# Altium footprint library pag7936.PcbLib: 21 footprints (part 2 of 2)
Each footprint in its own frame and in the unit in brackets; x right, y up, seen from the top. Pads: shape width x height; smd on the part's side, far side on the other; paste and mask are expansions set on the pad; w line width, h text height; cw(c..) or ccw(c..) is an arc to the next point about the centre after c.
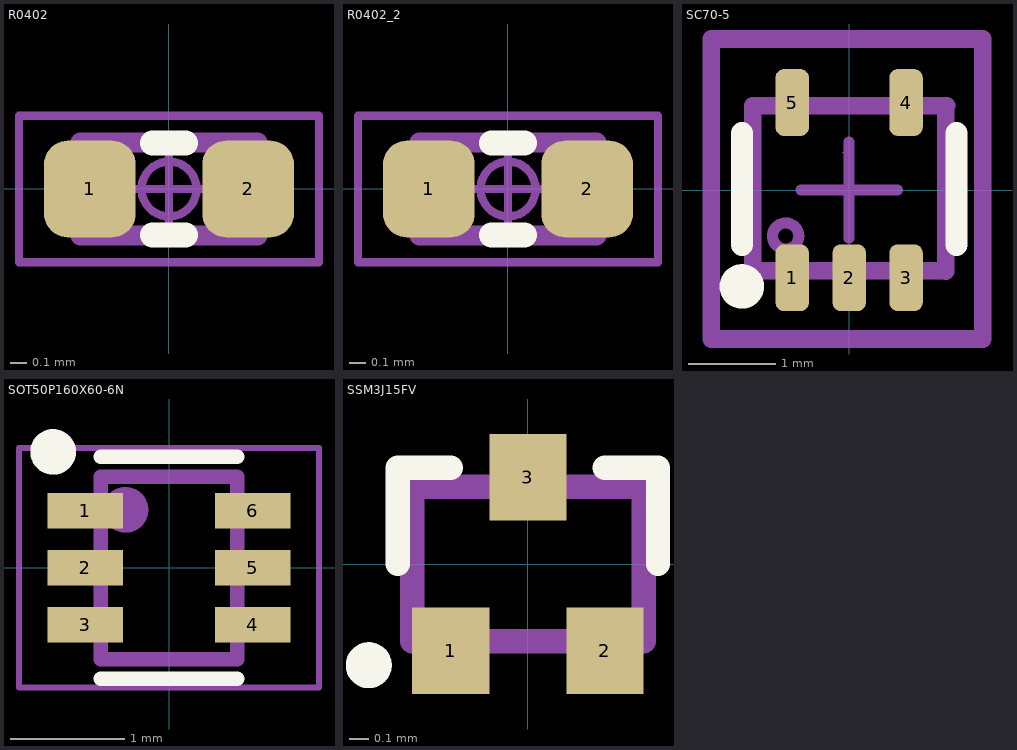
[diagram p1: the footprints below, top view; thin cyan lines are the x and y axes]

## R0402 [mm]
pads (2):
  rrect51% 0.55x0.58 smd mask+0.05: 1(-0.475,0) 2(0.475,0)
Top Overlay:
  lines w0.15: -0.1,-0.275 0.1,-0.275 ; -0.1,0.275 0.1,0.275
Top 3D Body:
  lines w0.12: -0.53,-0.28 0.53,-0.28 0.53,0.28 -0.53,0.28 -0.53,-0.28
  text ".designator" at -0.432,-0.152 h0.3
Top Courtyard:
  circle w0.05: c0,0 r0.165
  lines w0.05: -0.22,0 0.22,0 ; 0,-0.22 0,0.22 ; -0.9,-0.44 0.9,-0.44 0.9,0.44 -0.9,0.44 -0.9,-0.44
3D body "RES-0402.stp": height 0.34, standoff 0, extent -0.5,-0.25 0.5,0.25

## R0402_2 [mm]
pads (2):
  rrect51% 0.55x0.58 smd mask+0.05: 1(-0.475,0) 2(0.475,0)
Top Overlay:
  lines w0.15: -0.1,-0.275 0.1,-0.275 ; -0.1,0.275 0.1,0.275
Top 3D Body:
  lines w0.12: -0.53,-0.28 0.53,-0.28 0.53,0.28 -0.53,0.28 -0.53,-0.28
  text ".designator" at -0.432,-0.152 h0.3
Top Courtyard:
  circle w0.05: c0,0 r0.165
  lines w0.05: -0.22,0 0.22,0 ; 0,-0.22 0,0.22 ; -0.9,-0.44 0.9,-0.44 0.9,0.44 -0.9,0.44 -0.9,-0.44
3D body "RES-0402.stp": height 0.34, standoff 0, extent -0.5,-0.25 0.5,0.25

## SC70-5 [mil]
pads (5):
  rrect50% 15x30 smd: 1(-25.59,-39.37) 2(0,-39.37) 3(25.59,-39.37) 4(25.59,39.37) 5(-25.59,39.37)
Top Overlay:
  circle w10: c-48.23,-43.31 r5
  lines w10: -48.23,-24.61 -48.23,25.59 ; 48.23,-24.61 48.23,25.59
Mechanical 13:
  circle w5: c-28.54,-20.67 r5.91
  lines w5: -13.78,0 -0.01,0 ; -0.01,-12.8 -0.01,-0.01 ; -0.01,12.8 -0.01,-0.01 ; 13.78,-0.01 -0.01,-0.01
  lines w7.87: -43.31,-36.35 43.24,-36.35 43.31,-36.42 43.31,37.4 43.75,37.84 -43.31,37.84 -43.31,-36.35
  text ".designator" at -36.42,16.73 h15.75
Mechanical 15:
  lines w0.1: -2.99,16.88 -0.99,18.88
  lines w4.92: -21.65,0 0,0 ; 0,-21.65 0,0 ; 0,21.65 0,0 ; 21.65,0 0,0
  lines w7.87: -62.01,-66.93 60.04,-66.93 60.04,67.91 -62.01,67.91 -62.01,-66.93
3D body "SC70-5.step": height 43.31, standoff 0, extent -39.38,-41.34 39.36,41.33

## SOT50P160X60-6N [mm]
pads (6):
  rect 0.66x0.31 smd: 1(-0.735,0.5) 2(-0.735,0) 3(-0.735,-0.5) 4(0.735,-0.5) 5(0.735,0) 6(0.735,0.5)
Top Overlay:
  circle w0.2: c-1.016,1.016 r0.1
  lines w0.127: -0.6,-0.975 0.6,-0.975 ; -0.6,0.975 0.6,0.975
Mechanical 13:
  circle w0.2: c-0.381,0.508 r0.1
  lines w0.127: -0.6,-0.8 0.6,-0.8 0.6,0.8 -0.6,0.8 -0.6,-0.8
Mechanical 15:
  lines w0.05: -1.315,-1.05 1.315,-1.05 1.315,1.05 -1.315,1.05 -1.315,-1.05
3D body "step_temp.STEP": height 0.6, standoff 0, extent -0.8,-0.8 0.8,0.8

## SSM3J15FV [mm]
pads (3):
  rect 0.4x0.45 smd: 1(-0.4,-0.45) 2(0.4,-0.45) 3(0,0.45)
Top Overlay:
  circle w0.127: c-0.825,-0.525 r0.056
  lines w0.127: -0.675,0 -0.675,0.5 -0.65,0.5 -0.4,0.5 ; 0.4,0.5 0.65,0.5 0.675,0.5 0.675,0
Mechanical 13:
  lines w0.127: -0.6,-0.4 0.6,-0.4 0.6,0.4 -0.6,0.4 -0.6,-0.4
  text ".designator" at -0.6,-0.635 h0.64
3D body: height 0.6, standoff 0, extent -0.6,-0.4 0.6,0.4
3D body: height 0.2, standoff 0, extent -0.5,-0.6 -0.3,-0.3
3D body: height 0.2, standoff 0, extent -0.1,0.3 0.1,0.6
3D body: height 0.2, standoff 0, extent 0.3,-0.6 0.5,-0.3